# Altium footprint library CAP-ELEC-8X14.PcbLib: 1 footprints
Each footprint in its own frame and in the unit in brackets; x right, y up, seen from the top. Pads: shape width x height; smd on the part's side, far side on the other; paste and mask are expansions set on the pad; w line width, h text height; cw(c..) or ccw(c..) is an arc to the next point about the centre after c.
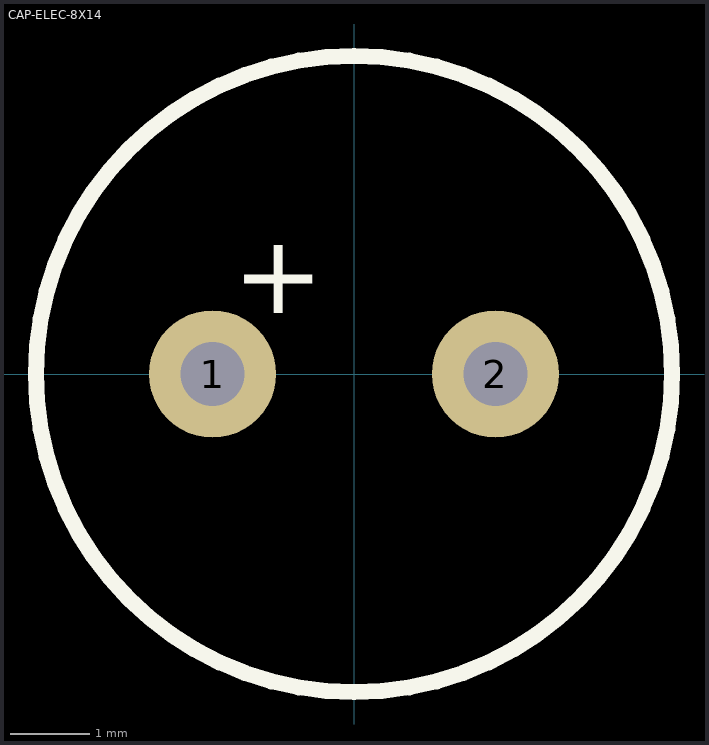
[diagram p0: the footprint, top view; thin cyan lines are the x and y axes]

## CAP-ELEC-8X14 [mm] "CAPACITOR ELECTROLITICO 8 X 14"
pads (2):
  round 1.6 hole 0.8: 1(-1.778,0) 2(1.778,0)
Top Overlay:
  circle w0.2: c0,0 r4
  text "+" at -1.524,0.762 h1
3D body "CAP-ELEC-8X15.step": height 15, standoff -3, extent -4,-3.998 4,3.998